# EAGLE library part CVCO55CL (library crystec_vco)
Volatage Controlled Oscillator - VCO Vendor: CRYSTEK MICROWAVE Series: CVCO-55CL
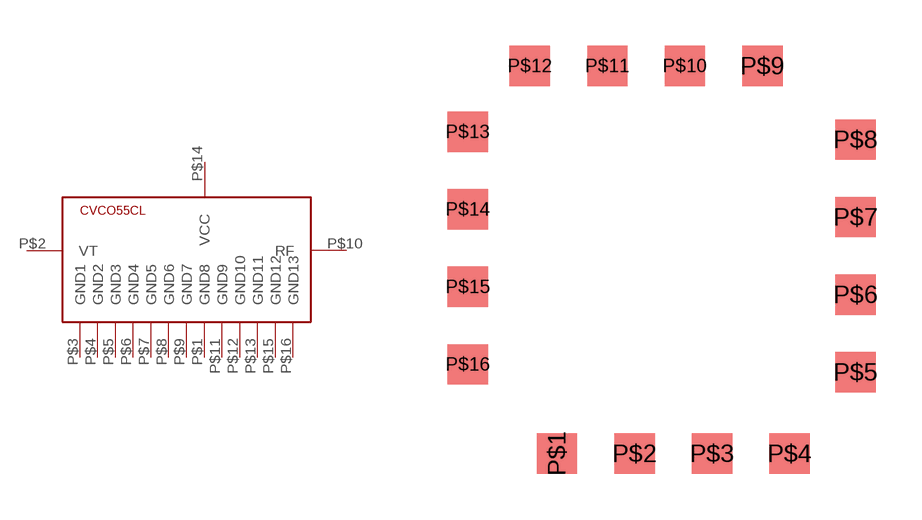
[diagram p0: symbol with the pads of CVCO55CL; footprint CVCO55CL]

Designator prefix -

## CVCO55CL  [CVCO55CL]
P$1  GND8
P$2  VT
P$3  GND1
P$4  GND2
P$5  GND3
P$6  GND4
P$7  GND5
P$8  GND6
P$9  GND7
P$10  RF
P$11  GND9
P$12  GND10
P$13  GND11
P$14  VCC
P$15  GND12
P$16  GND13

## Footprint CVCO55CL (pad centres in mm)
smd 1.32 x 1.32: P$1 2.921,0; P$2 5.461,0; P$3 8.001,0; P$4 10.541,0; P$5 12.7,2.667; P$6 12.7,5.207; P$7 12.7,7.747; P$8 12.7,10.287; P$9 9.652,12.7; P$10 7.112,12.7; P$11 4.572,12.7; P$12 2.032,12.7; P$13 0,10.541; P$14 0,8.001; P$15 0,5.461; P$16 0,2.921